# Altium footprint library Coffee.PcbLib: 9 footprints
Each footprint in its own frame and in the unit in brackets; x right, y up, seen from the top. Pads: shape width x height; smd on the part's side, far side on the other; paste and mask are expansions set on the pad; w line width, h text height; cw(c..) or ccw(c..) is an arc to the next point about the centre after c.
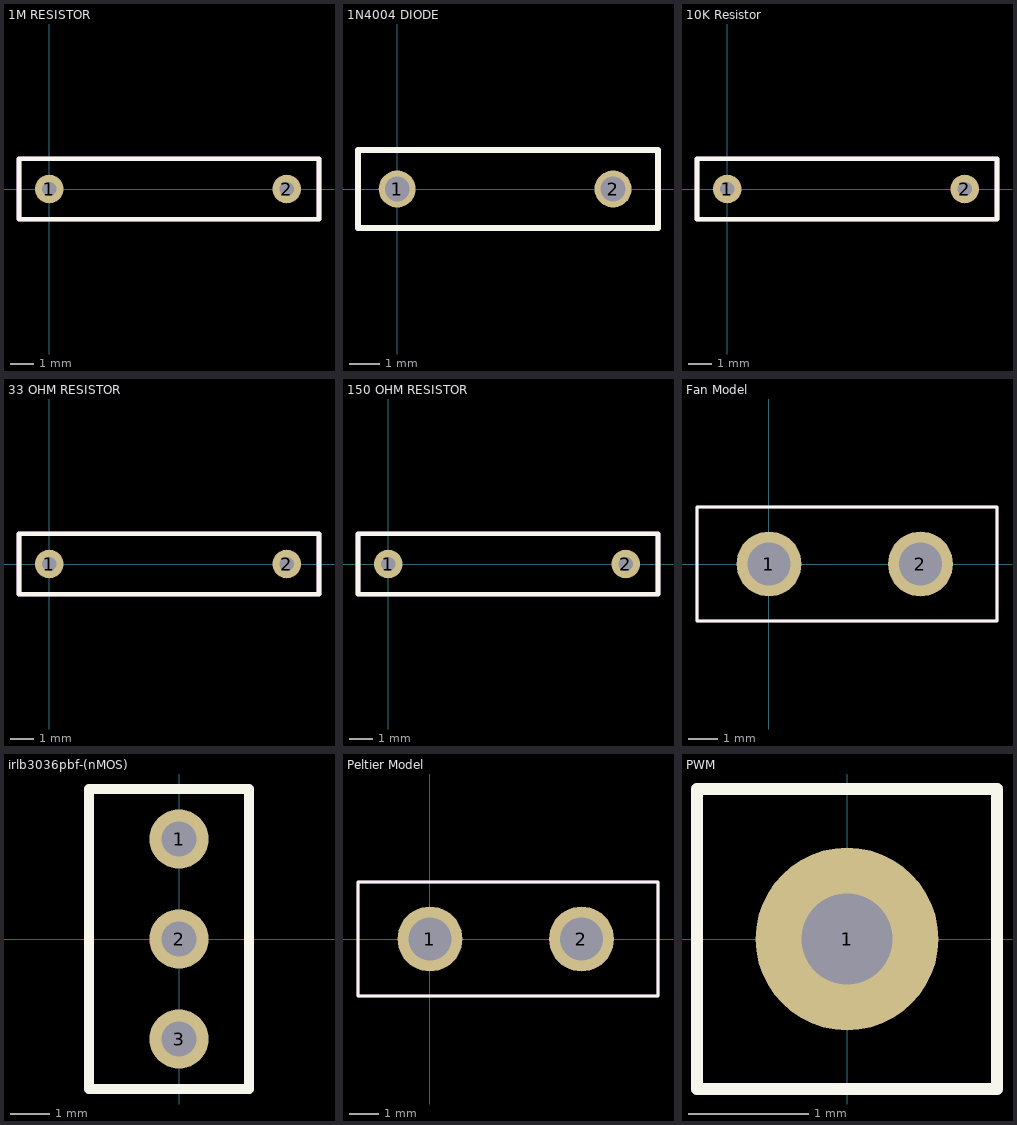
[diagram p0: the footprints below, top view; thin cyan lines are the x and y axes]

## 1M RESISTOR [mm]
pads (2):
  round 1.2 hole 0.6: 1(0,0) 2(10,0)
Top Overlay:
  lines w0.2: -1.27,-1.27 -1.27,1.27 7.874,1.27 11.354,1.27 11.354,-1.27 7.874,-1.27 -1.27,-1.27
Mechanical 1:
  lines w0.2: -1.27,-1.27 7.874,-1.27 11.354,-1.27 11.354,1.27 7.874,1.27 -1.27,1.27 -1.27,-1.27
  text "'.Designator'" at -0.508,-0.508 h0.7
3D body "RES-0.25W-H-MF.stp": height 2.69, standoff -2.5, extent -0.349,-1.297 10.359,1.298

## 1N4004 DIODE [mm]
pads (2):
  round 1.2 hole 0.8: 1(0,0) 2(7,0)
Top Overlay:
  lines w0.2: 8.458,-1.27 7.874,-1.27 -1.27,-1.27 -1.27,1.27 7.874,1.27 8.458,1.27 ; 8.458,-1.245 8.458,1.245
Mechanical 1:
  lines w0.2: 8.458,-1.27 7.874,-1.27 -1.27,-1.27 -1.27,1.27 7.874,1.27 8.458,1.27 ; 8.458,-1.245 8.458,1.245
  text "'.Designator'" at -0.635,-0.051 h0.7
3D body "User Library-Diode 1N4004 x7mm (pcb).step": height 3.31, standoff -1.9, extent -0.42,-1.299 7.38,1.321

## 10K Resistor [mm]
pads (2):
  round 1.2 hole 0.6: 1(0,0) 2(10,0)
Top Overlay:
  lines w0.2: -1.27,-1.27 7.874,-1.27 11.354,-1.27 11.354,1.27 7.874,1.27 -1.27,1.27 -1.27,-1.27
Mechanical 1:
  lines w0.2: -1.27,-1.27 -1.27,1.27 7.874,1.27 11.354,1.27 11.354,-1.27 7.874,-1.27 -1.27,-1.27
  text "'.Designator'" at -0.508,-0.508 h0.7
3D body "RES-0.25W-H-MF.stp": height 2.69, standoff -2.5, extent -0.349,-1.297 10.359,1.298

## 33 OHM RESISTOR [mm]
pads (2):
  round 1.2 hole 0.6: 1(0,0) 2(10,0)
Top Overlay:
  lines w0.2: -1.27,-1.27 -1.27,1.27 7.874,1.27 11.354,1.27 11.354,-1.27 7.874,-1.27 -1.27,-1.27
Mechanical 1:
  lines w0.2: -1.27,-1.27 7.874,-1.27 11.354,-1.27 11.354,1.27 7.874,1.27 -1.27,1.27 -1.27,-1.27
  text "'.Designator'" at -0.508,-0.508 h0.7
3D body "RES-0.25W-H-MF.stp": height 2.69, standoff -2.5, extent -0.349,-1.297 10.359,1.298

## 150 OHM RESISTOR [mm]
pads (2):
  round 1.2 hole 0.6: 1(0,0) 2(10,0)
Top Overlay:
  lines w0.2: -1.27,-1.27 7.874,-1.27 11.354,-1.27 11.354,1.27 7.874,1.27 -1.27,1.27 -1.27,-1.27
Mechanical 1:
  lines w0.2: -1.27,-1.27 -1.27,1.27 7.874,1.27 11.354,1.27 11.354,-1.27 7.874,-1.27 -1.27,-1.27
  text "'.Designator'" at -0.508,-0.508 h0.7
3D body "RES-0.25W-H-MF.stp": height 2.69, standoff -2.5, extent -0.349,-1.297 10.359,1.298

## Fan Model [mm]
pads (2):
  round 2.175 hole 1.45: 1(0,0) 2(5.08,0)
Top Overlay:
  lines w0.1: -2.413,-1.905 7.645,-1.905 7.645,1.905 -2.413,1.905 -2.413,-1.905
Mechanical 1:
  lines w0.1: -2.413,-1.905 -2.413,1.905 7.645,1.905 7.645,-1.905 -2.413,-1.905
3D body "User Library-DG306-5_0-1.STEP": height 9.85, standoff -3.85, extent -2.4,-4.5 7.6,3.1

## irlb3036pbf-(nMOS) [mm]
pads (3):
  round 1.5 hole 0.9: 1(0,2.54) 2(0,0) 3(0,-2.54)
Top Overlay:
  lines w0.254: -2.286,-3.81 -2.286,3.81 1.778,3.81 1.778,-3.81 -2.286,-3.81
Mechanical 1:
  lines w0.254: -2.286,-3.81 1.778,-3.81 1.778,3.81 -2.286,3.81 -2.286,-3.81
  text "'.Designator'" at -3.048,3.81 h0.7
3D body "User Library-IRLB3036G Transistors MOSFET N-Channel TO-220AB.step": height 20.45, standoff -12.45, extent -2.8,-5.086 1.405,5.087

## Peltier Model [mm]
pads (2):
  round 2.175 hole 1.45: 1(0,0) 2(5.08,0)
Top Overlay:
  lines w0.1: -2.413,-1.905 -2.413,1.905 7.645,1.905 7.645,-1.905 -2.413,-1.905
Mechanical 1:
  lines w0.1: -2.413,-1.905 7.645,-1.905 7.645,1.905 -2.413,1.905 -2.413,-1.905
3D body "User Library-DG306-5_0-1.STEP": height 9.85, standoff -3.85, extent -2.4,-4.5 7.6,3.1

## PWM [mil] "PWM Signal"
pads (1):
  round 60 hole 30: 1(0,0)
Top Overlay:
  lines w3.94: -49.21,-49.21 -49.21,49.21 49.21,49.21 49.21,-49.21 -49.21,-49.21
Mechanical 1:
  lines w3.94: -49.21,-49.21 49.21,-49.21 49.21,49.21 -49.21,49.21 -49.21,-49.21
  text "'.Designator'" at -88.58,59.06 h15.75